# EAGLE library part SN74LS92D (library SN74LS92)
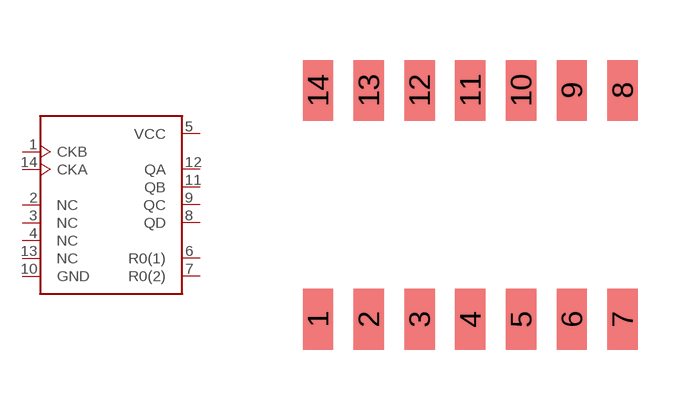
[diagram p0: symbol with the pads of SN74LS92; footprint SN74LS92]

Designator prefix -

## SN74LS92D  [SN74LS92]
1  CKB  in
2  NC  nc
3  NC  nc
4  NC  nc
5  VCC  pwr
6  R0(1)  in
7  R0(2)  in
8  QD  out
9  QC  out
10  GND  sup
11  QB  out
12  QA  out
13  NC  nc
14  CKA  in

## Footprint SN74LS92 (pad centres in mm)
smd 0.76 x 1.52: 1 -3.81,-2.86; 2 -2.54,-2.86; 3 -1.27,-2.86; 4 0,-2.86; 5 1.27,-2.86; 6 2.54,-2.86; 7 3.81,-2.86; 8 3.81,2.86; 9 2.54,2.86; 10 1.27,2.86; 11 0,2.86; 12 -1.27,2.86; 13 -2.54,2.86; 14 -3.81,2.86